# EAGLE library part NTX2-VERTICAL (library avaHabLbr)
Radiometrix NTX2 Transmitter Module Author Anthony Stirk / http://ava.upuaut.net
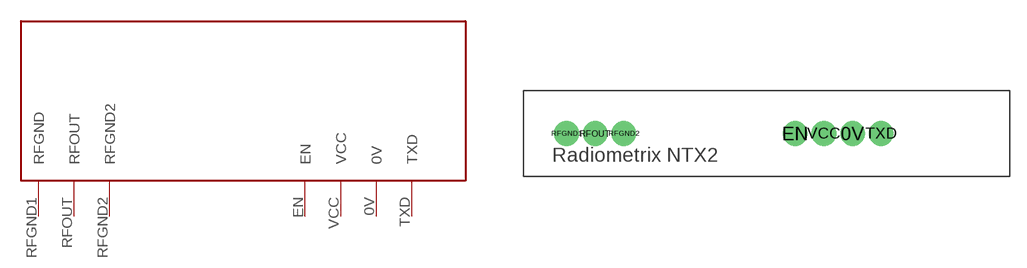
[diagram p1: symbol with the pads of NTX2-VERTICAL; footprint NTX2-VERTICAL]

Designator prefix -

## NTX2-VERTICAL  [NTX2-VERTICAL]
0V  0V
EN  EN
RFGND1  RFGND
RFGND2  RFGND2
RFOUT  RFOUT
TXD  TXD
VCC  VCC

## Footprint NTX2-VERTICAL (pad centres in mm)
Radiometrix NTX2 http://www.radiometrix.com/files/additional/ntx2nrx2.pdf Vertical mounted orientation
drill 0.7 pad 2.184: 0V 17.78,0; EN 12.7,0; RFGND1 -7.62,0; RFGND2 -2.54,0; RFOUT -5.08,0; TXD 20.32,0; VCC 15.24,0